# EAGLE library part PE4259 (library NewSDR)
SPDT MOSFET RF SWITCH
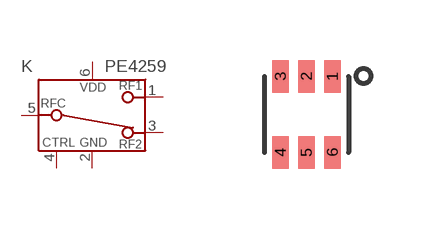
[diagram p146: symbol with the pads of SC-70_M; footprint SC-70_M]

Designator prefix K

## PE4259  [SC-70_M]
1  RF1
2  GND  pwr
3  RF2
4  CNTRL
5  RFC
6  VDD  pwr

## Footprint SC-70_M (pad centres in mm)
smd 0.406 x 0.813: 1 0.65,0.95; 2 0,0.95; 3 -0.65,0.95; 4 -0.65,-0.95; 5 0,-0.95; 6 0.65,-0.95